# EAGLE library part ESPRESSIF_SYSTEMS_ESP32-D0WD-V3 (library Upverter Library)
IC RF TxRx + MCU Bluetooth, WiFi 802.11b/g/n, Bluetooth 4.2 2.412GHz ~ 2.484GHz 48-VFQFN Exposed Pad
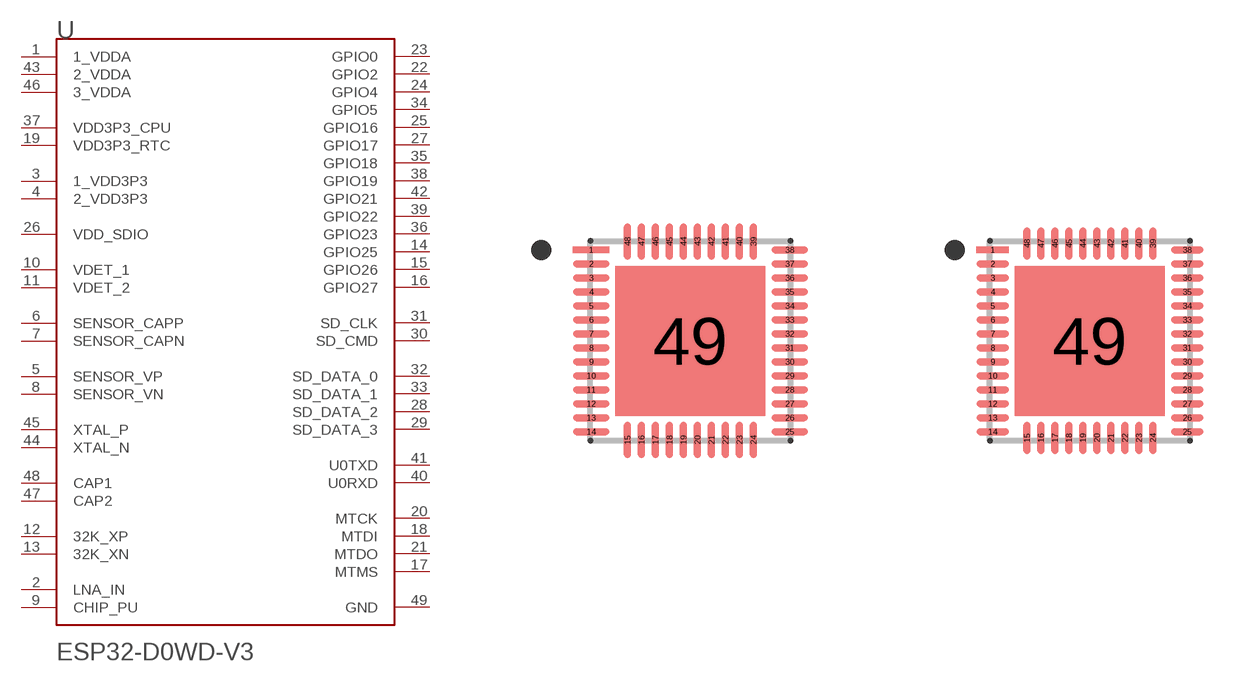
[diagram p0: symbol with the pads of ESPRESSIF_SYSTEMS_ESP32-D0WD-V3_0; footprints ESPRESSIF_SYSTEMS_ESP32-D0WD-V3_0, ESPRESSIF_SYSTEMS_ESP32-D0WD-V3_1]

Designator prefix U

## ESPRESSIF_SYSTEMS_ESP32-D0WD-V3ESPRESSIF_SYSTEMS_ESP32-D0WD-V3_0_0 (MF: Espressif Systems; MPN: ESP32-D0WD-V3; automotive: No; bandwidth: 72MHz; centroid_not_specified: No; data_rate: 150Mbits/s; datasheet: https://www.espressif.com/sites/default/files/documentation/esp32_datasheet_en.pdf; device_class_L1: Integrated Circuits (ICs); device_class_L2: RF Semiconductors and Devices; device_class_L3: Transceivers; digikey_description: IC RF TXRX+MCU BLUETOOTH WIFI; digikey_part_number: 1904-ESP32-D0WD-V3CT-ND; footprint_parameters_0: {"fp_type":"QFN","params":{"N1":{"nom":14,"long name":"Leads on long side","min":null,"max":null,"short name":"N1","type":"count"},"N2":{"nom":10,"long name":"Leads on wide side","min":null,"max":null,"short name":"N2","type":"count"},"A":{"nom":850000,"long name":"Height","min":800000,"max":900000,"short name":"A","type":"measurement"},"A1":{"nom":25000,"long name":"Package clearance","min":0,"max":50000,"short name":"A1","type":"measurement"},"A2":{"nom":825000,"long name":"Package height","min":750000,"max":900000,"short name":"A2","type":"measurement"},"D":{"nom":5000000,"long name":"Package length","min":4950000,"max":5050000,"short name":"D","type":"measurement"},"E":{"nom":5000000,"long name":"Package width","min":4950000,"max":5050000,"short name":"E","type":"measurement"},"B":{"nom":180000,"long name":"Lead width","min":130000,"max":230000,"short name":"B","type":"measurement"},"C":{"nom":203000,"long name":"Lead thickness","min":null,"max":null,"short name":"C","type":"measurement"},"L":{"nom":400000,"long name":"Lead foot length","min":350000,"max":450000,"short name":"L","type":"measurement"},"e":{"nom":350000,"long name":"Lead pitch","min":null,"max":null,"short name":"e","type":"measurement"},"D2":{"nom":3700000,"long name":"Thermal pad length","min":3650000,"max":3750000,"short name":"D2","type":"measurement"},"E2":{"nom":3700000,"long name":"Thermal pad width","min":3650000,"max":3750000,"short name":"E2","type":"measurement"},"PC":{"long name":"Paste coverage (%)","type":"percentage","short name":"PC","value":40},"HT":{"default":"Yes","long name":"Thermal pad","type":"multichoiceparent","short name":"HT","children":["D2","E2","PC"]},"offset x":{"nom":0,"long name":"X Center offset","min":null,"max":null,"short name":"offset x","type":"measurement"},"offset y":{"nom":0,"long name":"Y Center offset","min":null,"max":null,"short name":"offset y","type":"measurement"},"LS":{"default":"Rounded rectangle","long name":"Land shape","type":"multichoice","short name":"LS"},"LS1":{"default":"Rectangle","long name":"Land shape (Pin 1)","type":"multichoice","short name":"LS1"},"solder toe":{"nom":400000,"long name":"Solder fillet (toe)","min":null,"max":null,"short name":"solder toe","type":"fixedmeasurement"},"solder heel":{"nom":0,"long name":"Solder fillet (heel)","min":null,"max":null,"short name":"solder heel","type":"fixedmeasurement"},"solder side":{"nom":-40000,"long name":"Solder fillet (side)","min":null,"max":null,"short name":"solder side","type":"fixedmeasurement"},"courtyard":{"nom":500000,"long name":"Courtyard","min":null,"max":null,"short name":"courtyard","type":"fixedmeasurement"},"SF":{"default":"A","long name":"Packing level","type":"multichoiceparent","short name":"SF","help":"http://support.upverter.com/customer/portal/articles/978783-what-is-a-footprint-packing-level","children":["solder toe","solder heel","solder side","courtyard"]}}}; footprint_parameters_1: {"fp_type":"QFN","params":{"N1":{"nom":14,"long name":"Leads on long side","min":null,"max":null,"short name":"N1","type":"count"},"N2":{"nom":10,"long name":"Leads on wide side","min":null,"max":null,"short name":"N2","type":"count"},"A":{"nom":850000,"long name":"Height","min":800000,"max":900000,"short name":"A","type":"measurement"},"A1":{"nom":25000,"long name":"Package clearance","min":0,"max":50000,"short name":"A1","type":"measurement"},"A2":{"nom":825000,"long name":"Package height","min":750000,"max":900000,"short name":"A2","type":"measurement"},"D":{"nom":5000000,"long name":"Package length","min":4950000,"max":5050000,"short name":"D","type":"measurement"},"E":{"nom":5000000,"long name":"Package width","min":4950000,"max":5050000,"short name":"E","type":"measurement"},"B":{"nom":180000,"long name":"Lead width","min":130000,"max":230000,"short name":"B","type":"measurement"},"C":{"nom":203000,"long name":"Lead thickness","min":null,"max":null,"short name":"C","type":"measurement"},"L":{"nom":400000,"long name":"Lead foot length","min":350000,"max":450000,"short name":"L","type":"measurement"},"e":{"nom":350000,"long name":"Lead pitch","min":null,"max":null,"short name":"e","type":"measurement"},"D2":{"nom":3700000,"long name":"Thermal pad length","min":3650000,"max":3750000,"short name":"D2","type":"measurement"},"E2":{"nom":3700000,"long name":"Thermal pad width","min":3650000,"max":3750000,"short name":"E2","type":"measurement"},"PC":{"long name":"Paste coverage (%)","type":"percentage","short name":"PC","value":40},"HT":{"default":"Yes","long name":"Thermal pad","type":"multichoiceparent","short name":"HT","children":["D2","E2","PC"]},"offset x":{"nom":0,"long name":"X Center offset","min":null,"max":null,"short name":"offset x","type":"measurement"},"offset y":{"nom":0,"long name":"Y Center offset","min":null,"max":null,"short name":"offset y","type":"measurement"},"LS":{"default":"Rounded rectangle","long name":"Land shape","type":"multichoice","short name":"LS"},"LS1":{"default":"Rectangle","long name":"Land shape (Pin 1)","type":"multichoice","short name":"LS1"},"solder toe":{"nom":300000,"long name":"Solder fillet (toe)","min":null,"max":null,"short name":"solder toe","type":"fixedmeasurement"},"solder heel":{"nom":0,"long name":"Solder fillet (heel)","min":null,"max":null,"short name":"solder heel","type":"fixedmeasurement"},"solder side":{"nom":-40000,"long name":"Solder fillet (side)","min":null,"max":null,"short name":"solder side","type":"fixedmeasurement"},"courtyard":{"nom":250000,"long name":"Courtyard","min":null,"max":null,"short name":"courtyard","type":"fixedmeasurement"},"SF":{"default":"B","long name":"Packing level","type":"multichoiceparent","short name":"SF","help":"http://support.upverter.com/customer/portal/articles/978783-what-is-a-footprint-packing-level","children":["solder toe","solder heel","solder side","courtyard"]}}}; footprint_parameters_2: {"fp_type":"QFN","params":{"N1":{"nom":14,"long name":"Leads on long side","min":null,"max":null,"short name":"N1","type":"count"},"N2":{"nom":10,"long name":"Leads on wide side","min":null,"max":null,"short name":"N2","type":"count"},"A":{"nom":850000,"long name":"Height","min":800000,"max":900000,"short name":"A","type":"measurement"},"A1":{"nom":25000,"long name":"Package clearance","min":0,"max":50000,"short name":"A1","type":"measurement"},"A2":{"nom":825000,"long name":"Package height","min":750000,"max":900000,"short name":"A2","type":"measurement"},"D":{"nom":5000000,"long name":"Package length","min":4950000,"max":5050000,"short name":"D","type":"measurement"},"E":{"nom":5000000,"long name":"Package width","min":4950000,"max":5050000,"short name":"E","type":"measurement"},"B":{"nom":180000,"long name":"Lead width","min":130000,"max":230000,"short name":"B","type":"measurement"},"C":{"nom":203000,"long name":"Lead thickness","min":null,"max":null,"short name":"C","type":"measurement"},"L":{"nom":400000,"long name":"Lead foot length","min":350000,"max":450000,"short name":"L","type":"measurement"},"e":{"nom":350000,"long name":"Lead pitch","min":null,"max":null,"short name":"e","type":"measurement"},"D2":{"nom":3700000,"long name":"Thermal pad length","min":3650000,"max":3750000,"short name":"D2","type":"measurement"},"E2":{"nom":3700000,"long name":"Thermal pad width","min":3650000,"max":3750000,"short name":"E2","type":"measurement"},"PC":{"long name":"Paste coverage (%)","type":"percentage","short name":"PC","value":40},"HT":{"default":"Yes","long name":"Thermal pad","type":"multichoiceparent","short name":"HT","children":["D2","E2","PC"]},"offset x":{"nom":0,"long name":"X Center offset","min":null,"max":null,"short name":"offset x","type":"measurement"},"offset y":{"nom":0,"long name":"Y Center offset","min":null,"max":null,"short name":"offset y","type":"measurement"},"LS":{"default":"Rounded rectangle","long name":"Land shape","type":"multichoice","short name":"LS"},"LS1":{"default":"Rectangle","long name":"Land shape (Pin 1)","type":"multichoice","short name":"LS1"},"solder toe":{"nom":200000,"long name":"Solder fillet (toe)","min":null,"max":null,"short name":"solder toe","type":"fixedmeasurement"},"solder heel":{"nom":0,"long name":"Solder fillet (heel)","min":null,"max":null,"short name":"solder heel","type":"fixedmeasurement"},"solder side":{"nom":-40000,"long name":"Solder fillet (side)","min":null,"max":null,"short name":"solder side","type":"fixedmeasurement"},"courtyard":{"nom":100000,"long name":"Courtyard","min":null,"max":null,"short name":"courtyard","type":"fixedmeasurement"},"SF":{"default":"C","long name":"Packing level","type":"multichoiceparent","short name":"SF","help":"http://support.upverter.com/customer/portal/articles/978783-what-is-a-footprint-packing-level","children":["solder toe","solder heel","solder side","courtyard"]}}}; footprint_variant_name_0: IPC_A; footprint_variant_name_1: IPC_B; footprint_variant_name_2: IPC_C; height: 0.9mm; interface: I2C,SPI,UART,2-Wire,Ethernet,I2S,Other; ipc_land_pattern_name: QFN35P500X500X85-48; lead_free: Yes; max_frequency: 2484MHz; max_supply_voltage: 3.6V; mfg_package_ident: 0; mfg_package_ident_date: 0; mfg_package_ident_rev: 0; min_supply_voltage: 1.8V; mouser_part_number: 356-ESP32-D0WD-V3; nominal_supply_current: 0.5A; number_of_ADC_channels: 18; number_of_GPIO: 34; package: VFQFN48; prefix: U; receiving_current: 100mA; rohs: Yes; sensitivity: -98dBm; standoff_height: 0mm; temperature_range_high: +125°C; temperature_range_low: -40°C; transmitting_current: 240mA; verification_version: 0.0.0.3)  [ESPRESSIF_SYSTEMS_ESP32-D0WD-V3_0]
1  1_VDDA  pwr
2  LNA_IN
3  1_VDD3P3  pwr
4  2_VDD3P3  pwr
5  SENSOR_VP  pas
6  SENSOR_CAPP  pas
7  SENSOR_CAPN  pas
8  SENSOR_VN  pas
9  CHIP_PU  in
10  VDET_1  pwr
11  VDET_2  pwr
12  32K_XP
13  32K_XN
14  GPIO25
15  GPIO26
16  GPIO27
17  MTMS  in
18  MTDI  in
19  VDD3P3_RTC  pwr
20  MTCK  in
21  MTDO  out
22  GPIO2
23  GPIO0
24  GPIO4
25  GPIO16
26  VDD_SDIO  pwr
27  GPIO17
28  SD_DATA_2
29  SD_DATA_3
30  SD_CMD  in
31  SD_CLK  in
32  SD_DATA_0  out
33  SD_DATA_1  out
34  GPIO5
35  GPIO18
36  GPIO23
37  VDD3P3_CPU  pwr
38  GPIO19
39  GPIO22
40  U0RXD  in
41  U0TXD  out
42  GPIO21
43  2_VDDA  pwr
44  XTAL_N  pas
45  XTAL_P  pas
46  3_VDDA  pwr
47  CAP2  pas
48  CAP1  pas
49  GND  pwr

## ESPRESSIF_SYSTEMS_ESP32-D0WD-V3ESPRESSIF_SYSTEMS_ESP32-D0WD-V3_0_1 (MF: Espressif Systems; MPN: ESP32-D0WD-V3; automotive: No; bandwidth: 72MHz; centroid_not_specified: No; data_rate: 150Mbits/s; datasheet: https://www.espressif.com/sites/default/files/documentation/esp32_datasheet_en.pdf; device_class_L1: Integrated Circuits (ICs); device_class_L2: RF Semiconductors and Devices; device_class_L3: Transceivers; digikey_description: IC RF TXRX+MCU BLUETOOTH WIFI; digikey_part_number: 1904-ESP32-D0WD-V3CT-ND; footprint_parameters_0: {"fp_type":"QFN","params":{"N1":{"nom":14,"long name":"Leads on long side","min":null,"max":null,"short name":"N1","type":"count"},"N2":{"nom":10,"long name":"Leads on wide side","min":null,"max":null,"short name":"N2","type":"count"},"A":{"nom":850000,"long name":"Height","min":800000,"max":900000,"short name":"A","type":"measurement"},"A1":{"nom":25000,"long name":"Package clearance","min":0,"max":50000,"short name":"A1","type":"measurement"},"A2":{"nom":825000,"long name":"Package height","min":750000,"max":900000,"short name":"A2","type":"measurement"},"D":{"nom":5000000,"long name":"Package length","min":4950000,"max":5050000,"short name":"D","type":"measurement"},"E":{"nom":5000000,"long name":"Package width","min":4950000,"max":5050000,"short name":"E","type":"measurement"},"B":{"nom":180000,"long name":"Lead width","min":130000,"max":230000,"short name":"B","type":"measurement"},"C":{"nom":203000,"long name":"Lead thickness","min":null,"max":null,"short name":"C","type":"measurement"},"L":{"nom":400000,"long name":"Lead foot length","min":350000,"max":450000,"short name":"L","type":"measurement"},"e":{"nom":350000,"long name":"Lead pitch","min":null,"max":null,"short name":"e","type":"measurement"},"D2":{"nom":3700000,"long name":"Thermal pad length","min":3650000,"max":3750000,"short name":"D2","type":"measurement"},"E2":{"nom":3700000,"long name":"Thermal pad width","min":3650000,"max":3750000,"short name":"E2","type":"measurement"},"PC":{"long name":"Paste coverage (%)","type":"percentage","short name":"PC","value":40},"HT":{"default":"Yes","long name":"Thermal pad","type":"multichoiceparent","short name":"HT","children":["D2","E2","PC"]},"offset x":{"nom":0,"long name":"X Center offset","min":null,"max":null,"short name":"offset x","type":"measurement"},"offset y":{"nom":0,"long name":"Y Center offset","min":null,"max":null,"short name":"offset y","type":"measurement"},"LS":{"default":"Rounded rectangle","long name":"Land shape","type":"multichoice","short name":"LS"},"LS1":{"default":"Rectangle","long name":"Land shape (Pin 1)","type":"multichoice","short name":"LS1"},"solder toe":{"nom":400000,"long name":"Solder fillet (toe)","min":null,"max":null,"short name":"solder toe","type":"fixedmeasurement"},"solder heel":{"nom":0,"long name":"Solder fillet (heel)","min":null,"max":null,"short name":"solder heel","type":"fixedmeasurement"},"solder side":{"nom":-40000,"long name":"Solder fillet (side)","min":null,"max":null,"short name":"solder side","type":"fixedmeasurement"},"courtyard":{"nom":500000,"long name":"Courtyard","min":null,"max":null,"short name":"courtyard","type":"fixedmeasurement"},"SF":{"default":"A","long name":"Packing level","type":"multichoiceparent","short name":"SF","help":"http://support.upverter.com/customer/portal/articles/978783-what-is-a-footprint-packing-level","children":["solder toe","solder heel","solder side","courtyard"]}}}; footprint_parameters_1: {"fp_type":"QFN","params":{"N1":{"nom":14,"long name":"Leads on long side","min":null,"max":null,"short name":"N1","type":"count"},"N2":{"nom":10,"long name":"Leads on wide side","min":null,"max":null,"short name":"N2","type":"count"},"A":{"nom":850000,"long name":"Height","min":800000,"max":900000,"short name":"A","type":"measurement"},"A1":{"nom":25000,"long name":"Package clearance","min":0,"max":50000,"short name":"A1","type":"measurement"},"A2":{"nom":825000,"long name":"Package height","min":750000,"max":900000,"short name":"A2","type":"measurement"},"D":{"nom":5000000,"long name":"Package length","min":4950000,"max":5050000,"short name":"D","type":"measurement"},"E":{"nom":5000000,"long name":"Package width","min":4950000,"max":5050000,"short name":"E","type":"measurement"},"B":{"nom":180000,"long name":"Lead width","min":130000,"max":230000,"short name":"B","type":"measurement"},"C":{"nom":203000,"long name":"Lead thickness","min":null,"max":null,"short name":"C","type":"measurement"},"L":{"nom":400000,"long name":"Lead foot length","min":350000,"max":450000,"short name":"L","type":"measurement"},"e":{"nom":350000,"long name":"Lead pitch","min":null,"max":null,"short name":"e","type":"measurement"},"D2":{"nom":3700000,"long name":"Thermal pad length","min":3650000,"max":3750000,"short name":"D2","type":"measurement"},"E2":{"nom":3700000,"long name":"Thermal pad width","min":3650000,"max":3750000,"short name":"E2","type":"measurement"},"PC":{"long name":"Paste coverage (%)","type":"percentage","short name":"PC","value":40},"HT":{"default":"Yes","long name":"Thermal pad","type":"multichoiceparent","short name":"HT","children":["D2","E2","PC"]},"offset x":{"nom":0,"long name":"X Center offset","min":null,"max":null,"short name":"offset x","type":"measurement"},"offset y":{"nom":0,"long name":"Y Center offset","min":null,"max":null,"short name":"offset y","type":"measurement"},"LS":{"default":"Rounded rectangle","long name":"Land shape","type":"multichoice","short name":"LS"},"LS1":{"default":"Rectangle","long name":"Land shape (Pin 1)","type":"multichoice","short name":"LS1"},"solder toe":{"nom":300000,"long name":"Solder fillet (toe)","min":null,"max":null,"short name":"solder toe","type":"fixedmeasurement"},"solder heel":{"nom":0,"long name":"Solder fillet (heel)","min":null,"max":null,"short name":"solder heel","type":"fixedmeasurement"},"solder side":{"nom":-40000,"long name":"Solder fillet (side)","min":null,"max":null,"short name":"solder side","type":"fixedmeasurement"},"courtyard":{"nom":250000,"long name":"Courtyard","min":null,"max":null,"short name":"courtyard","type":"fixedmeasurement"},"SF":{"default":"B","long name":"Packing level","type":"multichoiceparent","short name":"SF","help":"http://support.upverter.com/customer/portal/articles/978783-what-is-a-footprint-packing-level","children":["solder toe","solder heel","solder side","courtyard"]}}}; footprint_parameters_2: {"fp_type":"QFN","params":{"N1":{"nom":14,"long name":"Leads on long side","min":null,"max":null,"short name":"N1","type":"count"},"N2":{"nom":10,"long name":"Leads on wide side","min":null,"max":null,"short name":"N2","type":"count"},"A":{"nom":850000,"long name":"Height","min":800000,"max":900000,"short name":"A","type":"measurement"},"A1":{"nom":25000,"long name":"Package clearance","min":0,"max":50000,"short name":"A1","type":"measurement"},"A2":{"nom":825000,"long name":"Package height","min":750000,"max":900000,"short name":"A2","type":"measurement"},"D":{"nom":5000000,"long name":"Package length","min":4950000,"max":5050000,"short name":"D","type":"measurement"},"E":{"nom":5000000,"long name":"Package width","min":4950000,"max":5050000,"short name":"E","type":"measurement"},"B":{"nom":180000,"long name":"Lead width","min":130000,"max":230000,"short name":"B","type":"measurement"},"C":{"nom":203000,"long name":"Lead thickness","min":null,"max":null,"short name":"C","type":"measurement"},"L":{"nom":400000,"long name":"Lead foot length","min":350000,"max":450000,"short name":"L","type":"measurement"},"e":{"nom":350000,"long name":"Lead pitch","min":null,"max":null,"short name":"e","type":"measurement"},"D2":{"nom":3700000,"long name":"Thermal pad length","min":3650000,"max":3750000,"short name":"D2","type":"measurement"},"E2":{"nom":3700000,"long name":"Thermal pad width","min":3650000,"max":3750000,"short name":"E2","type":"measurement"},"PC":{"long name":"Paste coverage (%)","type":"percentage","short name":"PC","value":40},"HT":{"default":"Yes","long name":"Thermal pad","type":"multichoiceparent","short name":"HT","children":["D2","E2","PC"]},"offset x":{"nom":0,"long name":"X Center offset","min":null,"max":null,"short name":"offset x","type":"measurement"},"offset y":{"nom":0,"long name":"Y Center offset","min":null,"max":null,"short name":"offset y","type":"measurement"},"LS":{"default":"Rounded rectangle","long name":"Land shape","type":"multichoice","short name":"LS"},"LS1":{"default":"Rectangle","long name":"Land shape (Pin 1)","type":"multichoice","short name":"LS1"},"solder toe":{"nom":200000,"long name":"Solder fillet (toe)","min":null,"max":null,"short name":"solder toe","type":"fixedmeasurement"},"solder heel":{"nom":0,"long name":"Solder fillet (heel)","min":null,"max":null,"short name":"solder heel","type":"fixedmeasurement"},"solder side":{"nom":-40000,"long name":"Solder fillet (side)","min":null,"max":null,"short name":"solder side","type":"fixedmeasurement"},"courtyard":{"nom":100000,"long name":"Courtyard","min":null,"max":null,"short name":"courtyard","type":"fixedmeasurement"},"SF":{"default":"C","long name":"Packing level","type":"multichoiceparent","short name":"SF","help":"http://support.upverter.com/customer/portal/articles/978783-what-is-a-footprint-packing-level","children":["solder toe","solder heel","solder side","courtyard"]}}}; footprint_variant_name_0: IPC_A; footprint_variant_name_1: IPC_B; footprint_variant_name_2: IPC_C; height: 0.9mm; interface: I2C,SPI,UART,2-Wire,Ethernet,I2S,Other; ipc_land_pattern_name: QFN35P500X500X85-48; lead_free: Yes; max_frequency: 2484MHz; max_supply_voltage: 3.6V; mfg_package_ident: 0; mfg_package_ident_date: 0; mfg_package_ident_rev: 0; min_supply_voltage: 1.8V; mouser_part_number: 356-ESP32-D0WD-V3; nominal_supply_current: 0.5A; number_of_ADC_channels: 18; number_of_GPIO: 34; package: VFQFN48; prefix: U; receiving_current: 100mA; rohs: Yes; sensitivity: -98dBm; standoff_height: 0mm; temperature_range_high: +125°C; temperature_range_low: -40°C; transmitting_current: 240mA; verification_version: 0.0.0.3)  [ESPRESSIF_SYSTEMS_ESP32-D0WD-V3_1]
Pads as for ESPRESSIF_SYSTEMS_ESP32-D0WD-V3_0

## ESPRESSIF_SYSTEMS_ESP32-D0WD-V3ESPRESSIF_SYSTEMS_ESP32-D0WD-V3_0_2 (MF: Espressif Systems; MPN: ESP32-D0WD-V3; automotive: No; bandwidth: 72MHz; centroid_not_specified: No; data_rate: 150Mbits/s; datasheet: https://www.espressif.com/sites/default/files/documentation/esp32_datasheet_en.pdf; device_class_L1: Integrated Circuits (ICs); device_class_L2: RF Semiconductors and Devices; device_class_L3: Transceivers; digikey_description: IC RF TXRX+MCU BLUETOOTH WIFI; digikey_part_number: 1904-ESP32-D0WD-V3CT-ND; footprint_parameters_0: {"fp_type":"QFN","params":{"N1":{"nom":14,"long name":"Leads on long side","min":null,"max":null,"short name":"N1","type":"count"},"N2":{"nom":10,"long name":"Leads on wide side","min":null,"max":null,"short name":"N2","type":"count"},"A":{"nom":850000,"long name":"Height","min":800000,"max":900000,"short name":"A","type":"measurement"},"A1":{"nom":25000,"long name":"Package clearance","min":0,"max":50000,"short name":"A1","type":"measurement"},"A2":{"nom":825000,"long name":"Package height","min":750000,"max":900000,"short name":"A2","type":"measurement"},"D":{"nom":5000000,"long name":"Package length","min":4950000,"max":5050000,"short name":"D","type":"measurement"},"E":{"nom":5000000,"long name":"Package width","min":4950000,"max":5050000,"short name":"E","type":"measurement"},"B":{"nom":180000,"long name":"Lead width","min":130000,"max":230000,"short name":"B","type":"measurement"},"C":{"nom":203000,"long name":"Lead thickness","min":null,"max":null,"short name":"C","type":"measurement"},"L":{"nom":400000,"long name":"Lead foot length","min":350000,"max":450000,"short name":"L","type":"measurement"},"e":{"nom":350000,"long name":"Lead pitch","min":null,"max":null,"short name":"e","type":"measurement"},"D2":{"nom":3700000,"long name":"Thermal pad length","min":3650000,"max":3750000,"short name":"D2","type":"measurement"},"E2":{"nom":3700000,"long name":"Thermal pad width","min":3650000,"max":3750000,"short name":"E2","type":"measurement"},"PC":{"long name":"Paste coverage (%)","type":"percentage","short name":"PC","value":40},"HT":{"default":"Yes","long name":"Thermal pad","type":"multichoiceparent","short name":"HT","children":["D2","E2","PC"]},"offset x":{"nom":0,"long name":"X Center offset","min":null,"max":null,"short name":"offset x","type":"measurement"},"offset y":{"nom":0,"long name":"Y Center offset","min":null,"max":null,"short name":"offset y","type":"measurement"},"LS":{"default":"Rounded rectangle","long name":"Land shape","type":"multichoice","short name":"LS"},"LS1":{"default":"Rectangle","long name":"Land shape (Pin 1)","type":"multichoice","short name":"LS1"},"solder toe":{"nom":400000,"long name":"Solder fillet (toe)","min":null,"max":null,"short name":"solder toe","type":"fixedmeasurement"},"solder heel":{"nom":0,"long name":"Solder fillet (heel)","min":null,"max":null,"short name":"solder heel","type":"fixedmeasurement"},"solder side":{"nom":-40000,"long name":"Solder fillet (side)","min":null,"max":null,"short name":"solder side","type":"fixedmeasurement"},"courtyard":{"nom":500000,"long name":"Courtyard","min":null,"max":null,"short name":"courtyard","type":"fixedmeasurement"},"SF":{"default":"A","long name":"Packing level","type":"multichoiceparent","short name":"SF","help":"http://support.upverter.com/customer/portal/articles/978783-what-is-a-footprint-packing-level","children":["solder toe","solder heel","solder side","courtyard"]}}}; footprint_parameters_1: {"fp_type":"QFN","params":{"N1":{"nom":14,"long name":"Leads on long side","min":null,"max":null,"short name":"N1","type":"count"},"N2":{"nom":10,"long name":"Leads on wide side","min":null,"max":null,"short name":"N2","type":"count"},"A":{"nom":850000,"long name":"Height","min":800000,"max":900000,"short name":"A","type":"measurement"},"A1":{"nom":25000,"long name":"Package clearance","min":0,"max":50000,"short name":"A1","type":"measurement"},"A2":{"nom":825000,"long name":"Package height","min":750000,"max":900000,"short name":"A2","type":"measurement"},"D":{"nom":5000000,"long name":"Package length","min":4950000,"max":5050000,"short name":"D","type":"measurement"},"E":{"nom":5000000,"long name":"Package width","min":4950000,"max":5050000,"short name":"E","type":"measurement"},"B":{"nom":180000,"long name":"Lead width","min":130000,"max":230000,"short name":"B","type":"measurement"},"C":{"nom":203000,"long name":"Lead thickness","min":null,"max":null,"short name":"C","type":"measurement"},"L":{"nom":400000,"long name":"Lead foot length","min":350000,"max":450000,"short name":"L","type":"measurement"},"e":{"nom":350000,"long name":"Lead pitch","min":null,"max":null,"short name":"e","type":"measurement"},"D2":{"nom":3700000,"long name":"Thermal pad length","min":3650000,"max":3750000,"short name":"D2","type":"measurement"},"E2":{"nom":3700000,"long name":"Thermal pad width","min":3650000,"max":3750000,"short name":"E2","type":"measurement"},"PC":{"long name":"Paste coverage (%)","type":"percentage","short name":"PC","value":40},"HT":{"default":"Yes","long name":"Thermal pad","type":"multichoiceparent","short name":"HT","children":["D2","E2","PC"]},"offset x":{"nom":0,"long name":"X Center offset","min":null,"max":null,"short name":"offset x","type":"measurement"},"offset y":{"nom":0,"long name":"Y Center offset","min":null,"max":null,"short name":"offset y","type":"measurement"},"LS":{"default":"Rounded rectangle","long name":"Land shape","type":"multichoice","short name":"LS"},"LS1":{"default":"Rectangle","long name":"Land shape (Pin 1)","type":"multichoice","short name":"LS1"},"solder toe":{"nom":300000,"long name":"Solder fillet (toe)","min":null,"max":null,"short name":"solder toe","type":"fixedmeasurement"},"solder heel":{"nom":0,"long name":"Solder fillet (heel)","min":null,"max":null,"short name":"solder heel","type":"fixedmeasurement"},"solder side":{"nom":-40000,"long name":"Solder fillet (side)","min":null,"max":null,"short name":"solder side","type":"fixedmeasurement"},"courtyard":{"nom":250000,"long name":"Courtyard","min":null,"max":null,"short name":"courtyard","type":"fixedmeasurement"},"SF":{"default":"B","long name":"Packing level","type":"multichoiceparent","short name":"SF","help":"http://support.upverter.com/customer/portal/articles/978783-what-is-a-footprint-packing-level","children":["solder toe","solder heel","solder side","courtyard"]}}}; footprint_parameters_2: {"fp_type":"QFN","params":{"N1":{"nom":14,"long name":"Leads on long side","min":null,"max":null,"short name":"N1","type":"count"},"N2":{"nom":10,"long name":"Leads on wide side","min":null,"max":null,"short name":"N2","type":"count"},"A":{"nom":850000,"long name":"Height","min":800000,"max":900000,"short name":"A","type":"measurement"},"A1":{"nom":25000,"long name":"Package clearance","min":0,"max":50000,"short name":"A1","type":"measurement"},"A2":{"nom":825000,"long name":"Package height","min":750000,"max":900000,"short name":"A2","type":"measurement"},"D":{"nom":5000000,"long name":"Package length","min":4950000,"max":5050000,"short name":"D","type":"measurement"},"E":{"nom":5000000,"long name":"Package width","min":4950000,"max":5050000,"short name":"E","type":"measurement"},"B":{"nom":180000,"long name":"Lead width","min":130000,"max":230000,"short name":"B","type":"measurement"},"C":{"nom":203000,"long name":"Lead thickness","min":null,"max":null,"short name":"C","type":"measurement"},"L":{"nom":400000,"long name":"Lead foot length","min":350000,"max":450000,"short name":"L","type":"measurement"},"e":{"nom":350000,"long name":"Lead pitch","min":null,"max":null,"short name":"e","type":"measurement"},"D2":{"nom":3700000,"long name":"Thermal pad length","min":3650000,"max":3750000,"short name":"D2","type":"measurement"},"E2":{"nom":3700000,"long name":"Thermal pad width","min":3650000,"max":3750000,"short name":"E2","type":"measurement"},"PC":{"long name":"Paste coverage (%)","type":"percentage","short name":"PC","value":40},"HT":{"default":"Yes","long name":"Thermal pad","type":"multichoiceparent","short name":"HT","children":["D2","E2","PC"]},"offset x":{"nom":0,"long name":"X Center offset","min":null,"max":null,"short name":"offset x","type":"measurement"},"offset y":{"nom":0,"long name":"Y Center offset","min":null,"max":null,"short name":"offset y","type":"measurement"},"LS":{"default":"Rounded rectangle","long name":"Land shape","type":"multichoice","short name":"LS"},"LS1":{"default":"Rectangle","long name":"Land shape (Pin 1)","type":"multichoice","short name":"LS1"},"solder toe":{"nom":200000,"long name":"Solder fillet (toe)","min":null,"max":null,"short name":"solder toe","type":"fixedmeasurement"},"solder heel":{"nom":0,"long name":"Solder fillet (heel)","min":null,"max":null,"short name":"solder heel","type":"fixedmeasurement"},"solder side":{"nom":-40000,"long name":"Solder fillet (side)","min":null,"max":null,"short name":"solder side","type":"fixedmeasurement"},"courtyard":{"nom":100000,"long name":"Courtyard","min":null,"max":null,"short name":"courtyard","type":"fixedmeasurement"},"SF":{"default":"C","long name":"Packing level","type":"multichoiceparent","short name":"SF","help":"http://support.upverter.com/customer/portal/articles/978783-what-is-a-footprint-packing-level","children":["solder toe","solder heel","solder side","courtyard"]}}}; footprint_variant_name_0: IPC_A; footprint_variant_name_1: IPC_B; footprint_variant_name_2: IPC_C; height: 0.9mm; interface: I2C,SPI,UART,2-Wire,Ethernet,I2S,Other; ipc_land_pattern_name: QFN35P500X500X85-48; lead_free: Yes; max_frequency: 2484MHz; max_supply_voltage: 3.6V; mfg_package_ident: 0; mfg_package_ident_date: 0; mfg_package_ident_rev: 0; min_supply_voltage: 1.8V; mouser_part_number: 356-ESP32-D0WD-V3; nominal_supply_current: 0.5A; number_of_ADC_channels: 18; number_of_GPIO: 34; package: VFQFN48; prefix: U; receiving_current: 100mA; rohs: Yes; sensitivity: -98dBm; standoff_height: 0mm; temperature_range_high: +125°C; temperature_range_low: -40°C; transmitting_current: 240mA; verification_version: 0.0.0.3)  [ESPRESSIF_SYSTEMS_ESP32-D0WD-V3_2]
Pads as for ESPRESSIF_SYSTEMS_ESP32-D0WD-V3_0

## Footprint ESPRESSIF_SYSTEMS_ESP32-D0WD-V3_0 (pad centres in mm)
IC RF TxRx + MCU Bluetooth, WiFi 802.11b/g/n, Bluetooth 4.2 2.412GHz ~ 2.484GHz 48-VFQFN Exposed Pad
smd 0.911 x 0.172: 1 -2.481,2.275; 2 -2.481,1.925; 3 -2.481,1.575; 4 -2.481,1.225; 5 -2.481,0.875; 6 -2.481,0.525; 7 -2.481,0.175; 8 -2.481,-0.175; 9 -2.481,-0.525; 10 -2.481,-0.875; 11 -2.481,-1.225; 12 -2.481,-1.575; 13 -2.481,-1.925; 14 -2.481,-2.275; 25 2.481,-2.275; 26 2.481,-1.925; 27 2.481,-1.575; 28 2.481,-1.225; 29 2.481,-0.875; 30 2.481,-0.525; 31 2.481,-0.175; 32 2.481,0.175; 33 2.481,0.525; 34 2.481,0.875; 35 2.481,1.225; 36 2.481,1.575; 37 2.481,1.925; 38 2.481,2.275
smd 0.172 x 0.911: 15 -1.575,-2.481; 16 -1.225,-2.481; 17 -0.875,-2.481; 18 -0.525,-2.481; 19 -0.175,-2.481; 20 0.175,-2.481; 21 0.525,-2.481; 22 0.875,-2.481; 23 1.225,-2.481; 24 1.575,-2.481; 39 1.575,2.481; 40 1.225,2.481; 41 0.875,2.481; 42 0.525,2.481; 43 0.175,2.481; 44 -0.175,2.481; 45 -0.525,2.481; 46 -0.875,2.481; 47 -1.225,2.481; 48 -1.575,2.481
smd 3.75 x 3.75: 49 0,0

## Footprint ESPRESSIF_SYSTEMS_ESP32-D0WD-V3_1 (pad centres in mm)
IC RF TxRx + MCU Bluetooth, WiFi 802.11b/g/n, Bluetooth 4.2 2.412GHz ~ 2.484GHz 48-VFQFN Exposed Pad
smd 0.811 x 0.172: 1 -2.431,2.275; 2 -2.431,1.925; 3 -2.431,1.575; 4 -2.431,1.225; 5 -2.431,0.875; 6 -2.431,0.525; 7 -2.431,0.175; 8 -2.431,-0.175; 9 -2.431,-0.525; 10 -2.431,-0.875; 11 -2.431,-1.225; 12 -2.431,-1.575; 13 -2.431,-1.925; 14 -2.431,-2.275; 25 2.431,-2.275; 26 2.431,-1.925; 27 2.431,-1.575; 28 2.431,-1.225; 29 2.431,-0.875; 30 2.431,-0.525; 31 2.431,-0.175; 32 2.431,0.175; 33 2.431,0.525; 34 2.431,0.875; 35 2.431,1.225; 36 2.431,1.575; 37 2.431,1.925; 38 2.431,2.275
smd 0.172 x 0.811: 15 -1.575,-2.431; 16 -1.225,-2.431; 17 -0.875,-2.431; 18 -0.525,-2.431; 19 -0.175,-2.431; 20 0.175,-2.431; 21 0.525,-2.431; 22 0.875,-2.431; 23 1.225,-2.431; 24 1.575,-2.431; 39 1.575,2.431; 40 1.225,2.431; 41 0.875,2.431; 42 0.525,2.431; 43 0.175,2.431; 44 -0.175,2.431; 45 -0.525,2.431; 46 -0.875,2.431; 47 -1.225,2.431; 48 -1.575,2.431
smd 3.75 x 3.75: 49 0,0

## Footprint ESPRESSIF_SYSTEMS_ESP32-D0WD-V3_2 (pad centres in mm)
IC RF TxRx + MCU Bluetooth, WiFi 802.11b/g/n, Bluetooth 4.2 2.412GHz ~ 2.484GHz 48-VFQFN Exposed Pad
smd 0.711 x 0.172: 1 -2.381,2.275; 2 -2.381,1.925; 3 -2.381,1.575; 4 -2.381,1.225; 5 -2.381,0.875; 6 -2.381,0.525; 7 -2.381,0.175; 8 -2.381,-0.175; 9 -2.381,-0.525; 10 -2.381,-0.875; 11 -2.381,-1.225; 12 -2.381,-1.575; 13 -2.381,-1.925; 14 -2.381,-2.275; 25 2.381,-2.275; 26 2.381,-1.925; 27 2.381,-1.575; 28 2.381,-1.225; 29 2.381,-0.875; 30 2.381,-0.525; 31 2.381,-0.175; 32 2.381,0.175; 33 2.381,0.525; 34 2.381,0.875; 35 2.381,1.225; 36 2.381,1.575; 37 2.381,1.925; 38 2.381,2.275
smd 0.172 x 0.711: 15 -1.575,-2.381; 16 -1.225,-2.381; 17 -0.875,-2.381; 18 -0.525,-2.381; 19 -0.175,-2.381; 20 0.175,-2.381; 21 0.525,-2.381; 22 0.875,-2.381; 23 1.225,-2.381; 24 1.575,-2.381; 39 1.575,2.381; 40 1.225,2.381; 41 0.875,2.381; 42 0.525,2.381; 43 0.175,2.381; 44 -0.175,2.381; 45 -0.525,2.381; 46 -0.875,2.381; 47 -1.225,2.381; 48 -1.575,2.381
smd 3.75 x 3.75: 49 0,0